# EAGLE library part DAC80004IPW (library DAC80004)
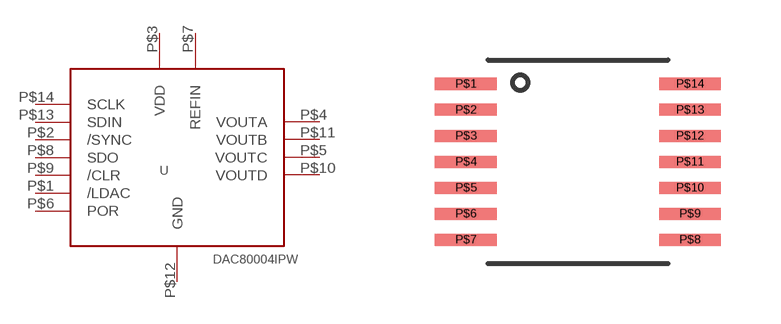
[diagram p0: symbol with the pads of TSSOP14; footprint TSSOP14]

Designator prefix -

## DAC80004IPW  [TSSOP14]
P$1  /LDAC  in
P$2  /SYNC  in
P$3  VDD  pwr
P$4  VOUTA  out
P$5  VOUTC  out
P$6  POR  in
P$7  REFIN  in
P$8  SDO  out
P$9  /CLR  in
P$10  VOUTD  out
P$11  VOUTB  out
P$12  GND  pwr
P$13  SDIN  in
P$14  SCLK  in

## Footprint TSSOP14 (pad centres in mm)
smd 1.55 x 0.3: P$1 -2.8,1.95; P$2 -2.8,1.3; P$3 -2.8,0.65; P$4 -2.8,0; P$5 -2.8,-0.65; P$6 -2.8,-1.3; P$7 -2.8,-1.95; P$8 2.8,-1.95; P$9 2.8,-1.3; P$10 2.8,-0.65; P$11 2.8,0; P$12 2.8,0.65; P$13 2.8,1.3; P$14 2.8,1.95